# Altium schematic symbol library ALLWINNER_V3S.SchLib: 1 symbol
Pins are listed as number, name and electrical type; pins without a type are passive.

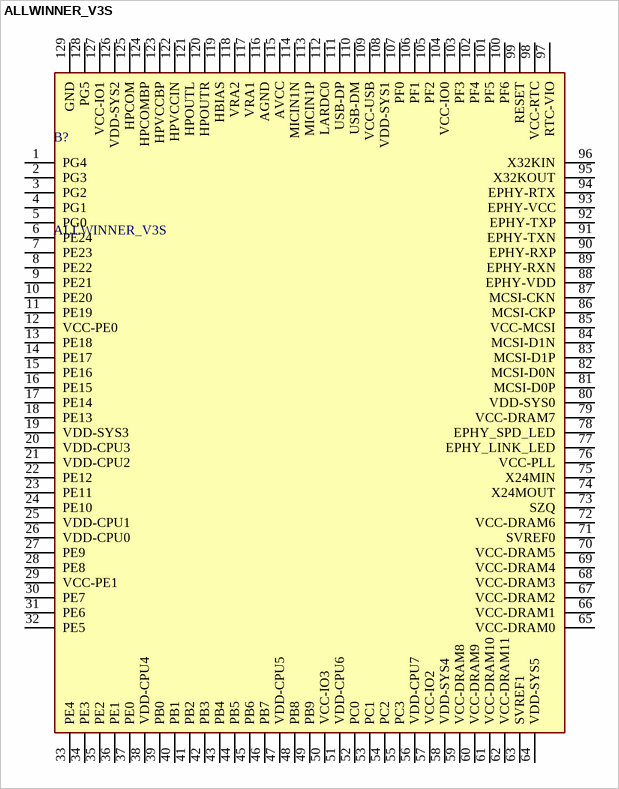
[diagram p0: symbol ALLWINNER_V3S]

## ALLWINNER_V3S
designator B?
Cost-efficient Video Encoding Processor; Manufacturer_Name: Allwinner Technology; Manufacturer_Part_Number: ALLWINNER V3S; Geometry.Height: 1.6mm; Mouser Part Number: *; Mouser Price/Stock: *; Arrow Part Number: *; Arrow Price/Stock: *; Datasheet Link: https://linux-sunxi.org/images/2/23/Allwinner_V3s_Datasheet_V1.0.pdf
footprint QFP40P1600X1600X160-129N
pins: 1 PG4, 2 PG3, 3 PG2, 4 PG1, 5 PG0, 6 PE24, 7 PE23, 8 PE22, 9 PE21, 10 PE20, 11 PE19, 12 VCC-PE0, 13 PE18, 14 PE17, 15 PE16, 16 PE15, 17 PE14, 18 PE13, 19 VDD-SYS3, 20 VDD-CPU3, 21 VDD-CPU2, 22 PE12, 23 PE11, 24 PE10, 25 VDD-CPU1, 26 VDD-CPU0, 27 PE9, 28 PE8, 29 VCC-PE1, 30 PE7, 31 PE6, 32 PE5, 33 PE4, 34 PE3, 35 PE2, 36 PE1, 37 PE0, 38 VDD-CPU4, 39 PB0, 40 PB1, 41 PB2, 42 PB3, 43 PB4, 44 PB5, 45 PB6, 46 PB7, 47 VDD-CPU5, 48 PB8, 49 PB9, 50 VCC-IO3, 51 VDD-CPU6, 52 PC0, 53 PC1, 54 PC2, 55 PC3, 56 VDD-CPU7, 57 VCC-IO2, 58 VDD-SYS4, 59 VCC-DRAM8, 60 VCC-DRAM9, 61 VCC-DRAM10, 62 VCC-DRAM11, 63 SVREF1, 64 VDD-SYS5, 65 VCC-DRAM0, 66 VCC-DRAM1, 67 VCC-DRAM2, 68 VCC-DRAM3, 69 VCC-DRAM4, 70 VCC-DRAM5, 71 SVREF0, 72 VCC-DRAM6, 73 SZQ, 74 X24MOUT, 75 X24MIN, 76 VCC-PLL, 77 EPHY_LINK_LED, 78 EPHY_SPD_LED, 79 VCC-DRAM7, 80 VDD-SYS0, 81 MCSI-D0P, 82 MCSI-D0N, 83 MCSI-D1P, 84 MCSI-D1N, 85 VCC-MCSI, 86 MCSI-CKP, 87 MCSI-CKN, 88 EPHY-VDD, 89 EPHY-RXN, 90 EPHY-RXP, 91 EPHY-TXN, 92 EPHY-TXP, 93 EPHY-VCC, 94 EPHY-RTX, 95 X32KOUT, 96 X32KIN, 97 RTC-VIO, 98 VCC-RTC, 99 RESET, 100 PF6, 101 PF5, 102 PF4, 103 PF3, 104 VCC-IO0, 105 PF2, 106 PF1, 107 PF0, 108 VDD-SYS1, 109 VCC-USB, 110 USB-DM, 111 USB-DP, 112 LARDC0, 113 MICIN1P, 114 MICIN1N, 115 AVCC, 116 AGND, 117 VRA1, 118 VRA2, 119 HBIAS, 120 HPOUTR, 121 HPOUTL, 122 HPVCCIN, 123 HPVCCBP, 124 HPCOMBP, 125 HPCOM, 126 VDD-SYS2, 127 VCC-IO1, 128 PG5, 129 GND